# Altium footprint library JST_B3PS-VH-LF-SN.PcbLib: 1 footprints
Each footprint in its own frame and in the unit in brackets; x right, y up, seen from the top. Pads: shape width x height; smd on the part's side, far side on the other; paste and mask are expansions set on the pad; w line width, h text height; cw(c..) or ccw(c..) is an arc to the next point about the centre after c.
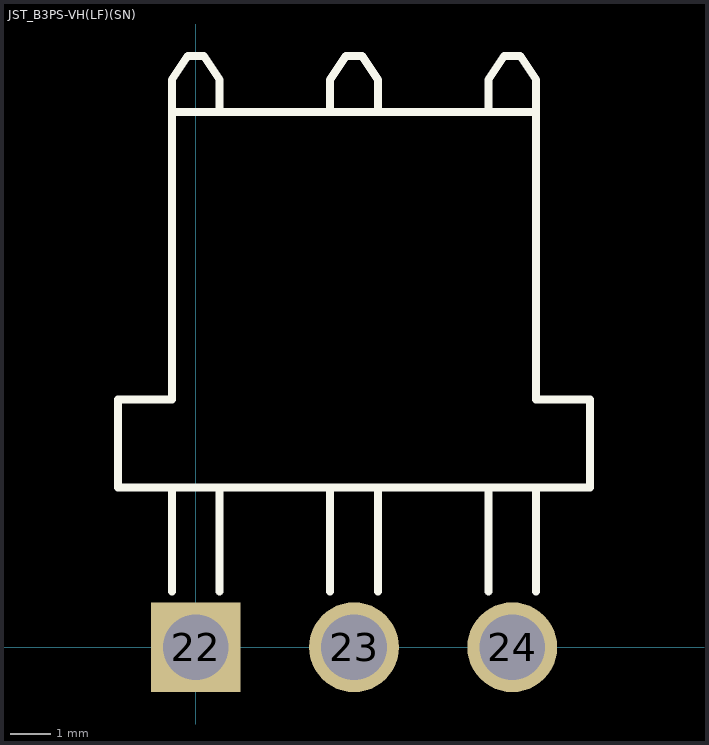
[diagram p0: the footprint, top view; thin cyan lines are the x and y axes]

## JST_B3PS-VH(LF)(SN) [mm]
height 8.5
pads (3):
  rect 2.25x2.25 hole 1.65 mask+0.102: 22(0,0)
  round 2.25 hole 1.65 mask+0.102: 23(3.96,0) 24(7.92,0)
Top Overlay:
  lines w0.2: -0.6,1.4 -0.6,4 ; -0.6,13.4 8.5,13.4 ; 0.6,1.4 0.6,4 ; 0.6,13.4 0.6,14.2 0.2,14.8 -0.2,14.8 -0.6,14.2 -0.6,6.2 -1.95,6.2 -1.95,4 9.87,4 9.87,6.2 8.52,6.2 8.52,14.2 8.12,14.8 7.72,14.8 7.32,14.2 7.32,13.4 ; 3.36,1.4 3.36,4 ; 3.36,13.4 3.36,14.2 3.76,14.8 4.16,14.8 4.56,14.2 4.56,13.4 ; 4.56,1.4 4.56,4 ; 7.32,1.4 7.32,4 ; 8.52,1.4 8.52,4
3D body "User Library-B3PS-VH.STEP": height 8.57, standoff -3.83, extent -1.973,-0.633 9.847,14.837